# Altium footprint library WE-TPC_1038.PcbLib: 1 footprints
Each footprint in its own frame and in the unit in brackets; x right, y up, seen from the top. Pads: shape width x height; smd on the part's side, far side on the other; paste and mask are expansions set on the pad; w line width, h text height; cw(c..) or ccw(c..) is an arc to the next point about the centre after c.
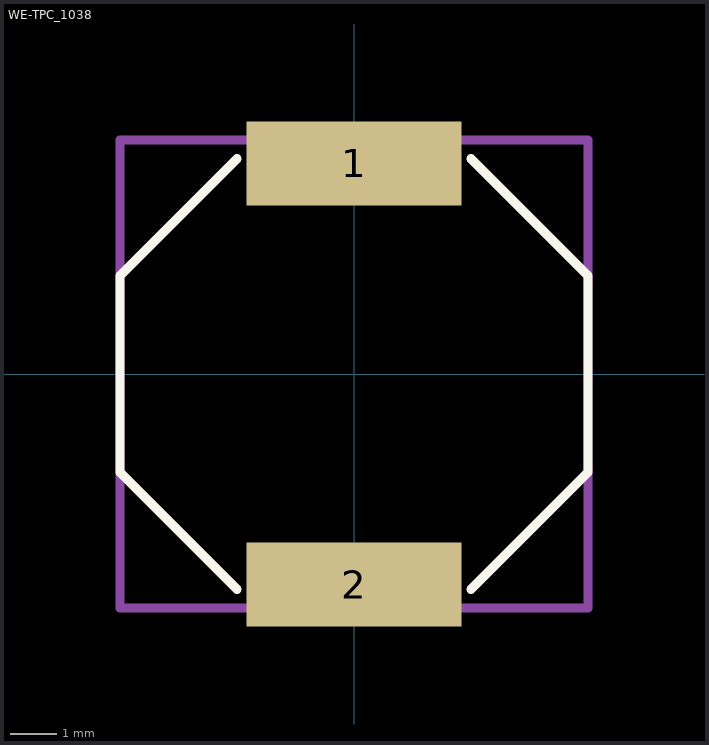
[diagram p0: the footprint, top view; thin cyan lines are the x and y axes]

## WE-TPC_1038 [mm] "Power Inductor, SMD, 2-Leads, body 10x10mm"
height 3.8
pads (2):
  rect 4.6x1.8 smd: 1(0,4.5) 2(0,-4.5)
Top Overlay:
  lines w0.2: -2.5,-4.6 -5,-2.1 -5,2.1 -2.5,4.6 ; 2.5,4.6 5,2.1 5,-2.1 2.5,-4.6
Mechanical 13:
  lines w0.2: -5,-5 5,-5 5,5 -5,5 -5,-5
3D body "STEP-WE-TPC-1038-rev1.stp": height 3.8, standoff 0, extent -5,-5 5,5